# Altium schematic symbol library MK.SchLib: 1 symbol
Pins are listed as number, name and electrical type; pins without a type are passive.

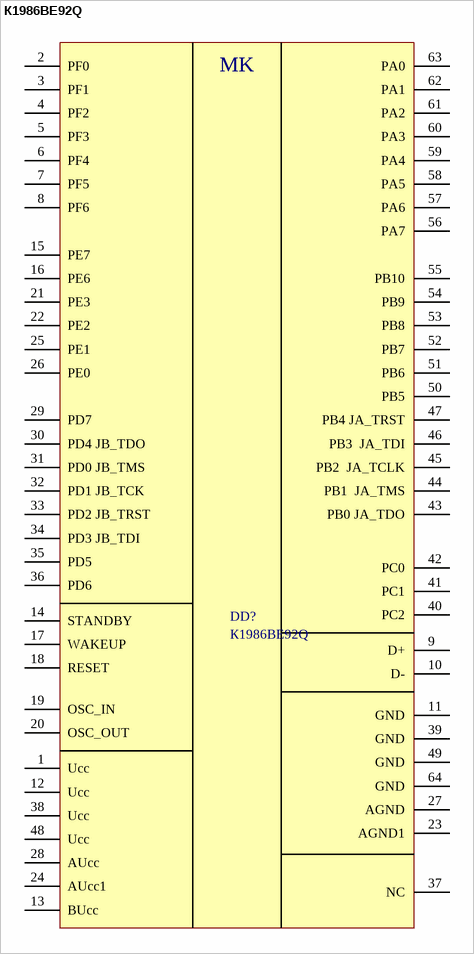
[diagram p0: symbol К1986ВЕ92Q]

## К1986ВЕ92Q
designator DD?
footprint TSQFP50P1200X1200X160-64N (TSQFP, 64-Leads, Body 10,00x10,00mm, Pitch 0,50mm, IPC Medium Density)
pins: 1 Ucc, 2 PF0, 3 PF1, 4 PF2, 5 PF3, 6 PF4, 7 PF5, 8 PF6, 9 D+, 10 D-, 11 GND, 12 Ucc, 13 BUcc, 14 STANDBY, 15 PE7, 16 PE6, 17 WAKEUP, 18 RESET, 19 OSC_IN, 20 OSC_OUT, 21 PE3, 22 PE2, 23 AGND1, 24 AUcc1, 25 PE1, 26 PE0, 27 AGND, 28 AUcc, 29 PD7, 30 PD4 JB_TDO, 31 PD0 JB_TMS, 32 PD1 JB_TCK, 33 PD2 JB_TRST, 34 PD3 JB_TDI, 35 PD5, 36 PD6, 37 NC, 38 Ucc, 39 GND, 40 PC2, 41 PC1, 42 PC0, 43 PB0 JA_TDO, 44 PB1  JA_TMS, 45 PB2  JA_TCLK, 46 PB3  JA_TDI, 47 PB4 JA_TRST, 48 Ucc, 49 GND, 50 PB5, 51 PB6, 52 PB7, 53 PB8, 54 PB9, 55 PB10, 56 PA7, 57 PA6, 58 PA5, 59 PA4, 60 PA3, 61 PA2, 62 PA1, 63 PA0, 64 GND
text: MK